# EAGLE library part 74*1G74 (library BattMon)
D type flipflo with async Set and Clear
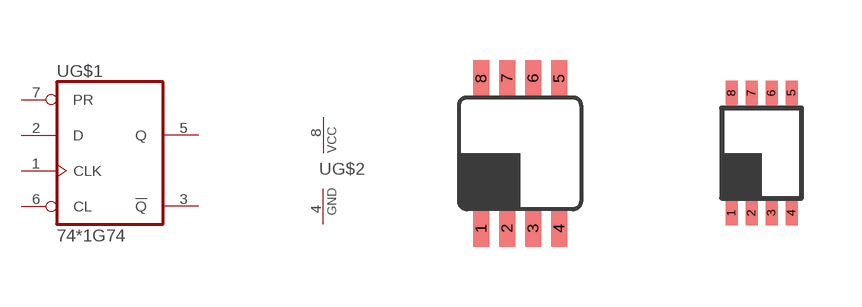
[diagram p0: symbol with the pads of DCT_R-PDSO-G8; footprints DCT_R-PDSO-G8, DCU_R-PDSO-G8]

Designator prefix -; gates G$1=7411074 G$2=PWRN

## 741G74DCT, 74LVC1G74DCT  [DCT_R-PDSO-G8]
1  G$1:CLK  in
2  G$1:D  in
3  G$1:!Q  out
4  G$2:GND  pwr
5  G$1:Q  out
6  G$1:CL  in
7  G$1:PR  in
8  G$2:VCC  pwr

## 741G74DCU, 74LVC1G74DCU  [DCU_R-PDSO-G8]
Pads as for DCT_R-PDSO-G8

## Footprint DCT_R-PDSO-G8 (pad centres in mm)
DCT (R-PDSO-G8) PLSTIG SMALL-OUTLINE PACKAGE Source: http://focus.ti.com/lit/ds/symlink/sn74lvc2g53.pdf
smd 0.4 x 0.914: 1 -0.975,-1.875; 2 -0.325,-1.875; 3 0.325,-1.875; 4 0.975,-1.875; 5 0.975,1.875; 6 0.325,1.875; 7 -0.325,1.875; 8 -0.975,1.875

## Footprint DCU_R-PDSO-G8 (pad centres in mm)
DCU (R-PDSO-G8) PLASTIC SMALL-OUTLINE PACKAGE (DIE DOWN) Source: http://focus.ti.com/lit/ds/symlink/sn74lvc2g53.pdf
smd 0.3 x 0.6: 1 -0.75,-1.5; 2 -0.25,-1.5; 3 0.25,-1.5; 4 0.75,-1.5; 5 0.75,1.5; 6 0.25,1.5; 7 -0.25,1.5; 8 -0.75,1.5